# EAGLE library part 74HC154D (library 74HC154D 653)
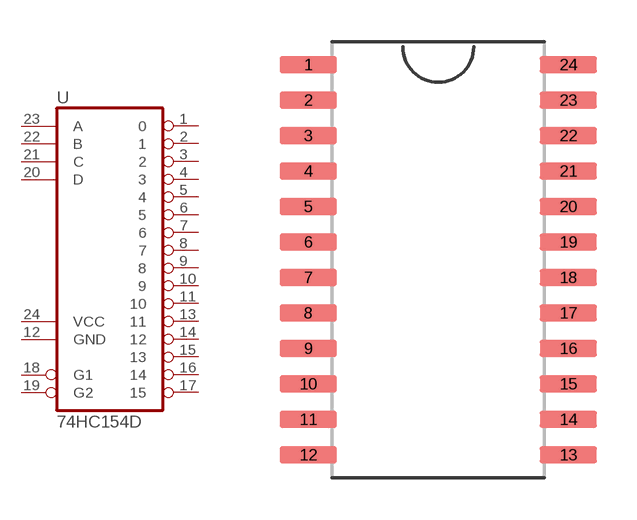
[diagram p0: symbol with the pads of 74HC154D; footprint 74HC154D]

Designator prefix -

## 74HC154D  [74HC154D]
1  0  out
2  1  out
3  2  out
4  3  out
5  4  out
6  5  out
7  6  out
8  7  out
9  8  out
10  9  out
11  10  out
12  GND  pwr
13  11  out
14  12  out
15  13  out
16  14  out
17  15  out
18  G1  in
19  G2  in
20  D  in
21  C  in
22  B  in
23  A  in
24  VCC  pwr

## Footprint 74HC154D (pad centres in mm)
smd 2.05 x 0.6: 1 -4.655,6.985; 2 -4.655,5.715; 3 -4.655,4.445; 4 -4.655,3.175; 5 -4.655,1.905; 6 -4.655,0.635; 7 -4.655,-0.635; 8 -4.655,-1.905; 9 -4.655,-3.175; 10 -4.655,-4.445; 11 -4.655,-5.715; 12 -4.655,-6.985; 13 4.655,-6.985; 14 4.655,-5.715; 15 4.655,-4.445; 16 4.655,-3.175; 17 4.655,-1.905; 18 4.655,-0.635; 19 4.655,0.635; 20 4.655,1.905; 21 4.655,3.175; 22 4.655,4.445; 23 4.655,5.715; 24 4.655,6.985